# EAGLE library part 2821 (library esp8266modules)
ADAFRUIT - 2821 - Adafruit Feather HUZZAH ESP8266 Source: Datasheet <https://cdn-learn.adafruit.com/downloads/pdf/adafruit-feather-huzzah-esp8266.pdf>
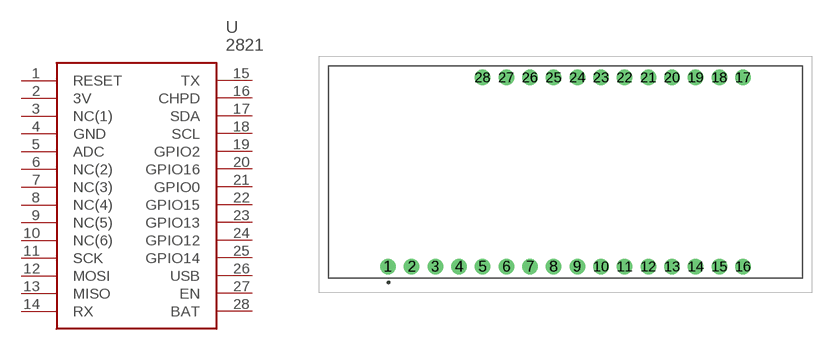
[diagram p19: symbol with the pads of 2821; footprint 2821]

Designator prefix U

## 2821 (Allied_Number: 70929322; Allied_Price/Stock: https://www.alliedelec.com/adafruit-industries-2821/70929322/; Arrow_Part_Number: 2821; Arrow_Price/Stock: https://www.arrow.com/en/products/2821/adafruit-industries; Description: ADAFRUIT - 2821 - Adafruit Feather HUZZAH ESP8266; Height: 4mm; Manufacturer_Name: Adafruit; Manufacturer_Part_Number: 2821; RS_Part_Number: 1245505; RS_Price/Stock: http://uk.rs-online.com/web/p/products/1245505)  [2821]
1  RESET
2  3V
3  NC(1)  nc
4  GND
5  ADC
6  NC(2)  nc
7  NC(3)  nc
8  NC(4)  nc
9  NC(5)  nc
10  NC(6)  nc
11  SCK
12  MOSI
13  MISO
14  RX
15  TX
16  CHPD
17  SDA
18  SCL
19  GPIO2
20  GPIO16
21  GPIO0
22  GPIO15
23  GPIO13
24  GPIO12
25  GPIO14
26  USB
27  EN
28  BAT

## Footprint 2821 (pad centres in mm)
New Feather Huzzah
drill 1.11 pad 1.665: 1 -35.56,0; 2 -33.02,0; 3 -30.48,0; 4 -27.94,0; 5 -25.4,0; 6 -22.86,0; 7 -20.32,0; 8 -17.78,0; 9 -15.24,0; 10 -12.7,0; 11 -10.16,0; 12 -7.62,0; 13 -5.08,0; 14 -2.54,0; 15 0,0; 16 2.54,0; 17 2.54,20.32; 18 0,20.32; 19 -2.54,20.32; 20 -5.08,20.32; 21 -7.62,20.32; 22 -10.16,20.32; 23 -12.7,20.32; 24 -15.24,20.32; 25 -17.78,20.32; 26 -20.32,20.32; 27 -22.86,20.32; 28 -25.4,20.32